# Altium integrated library MCU_Espressif.IntLib: 3 symbols
Pins are listed as number, name and electrical type; pins without a type are passive.

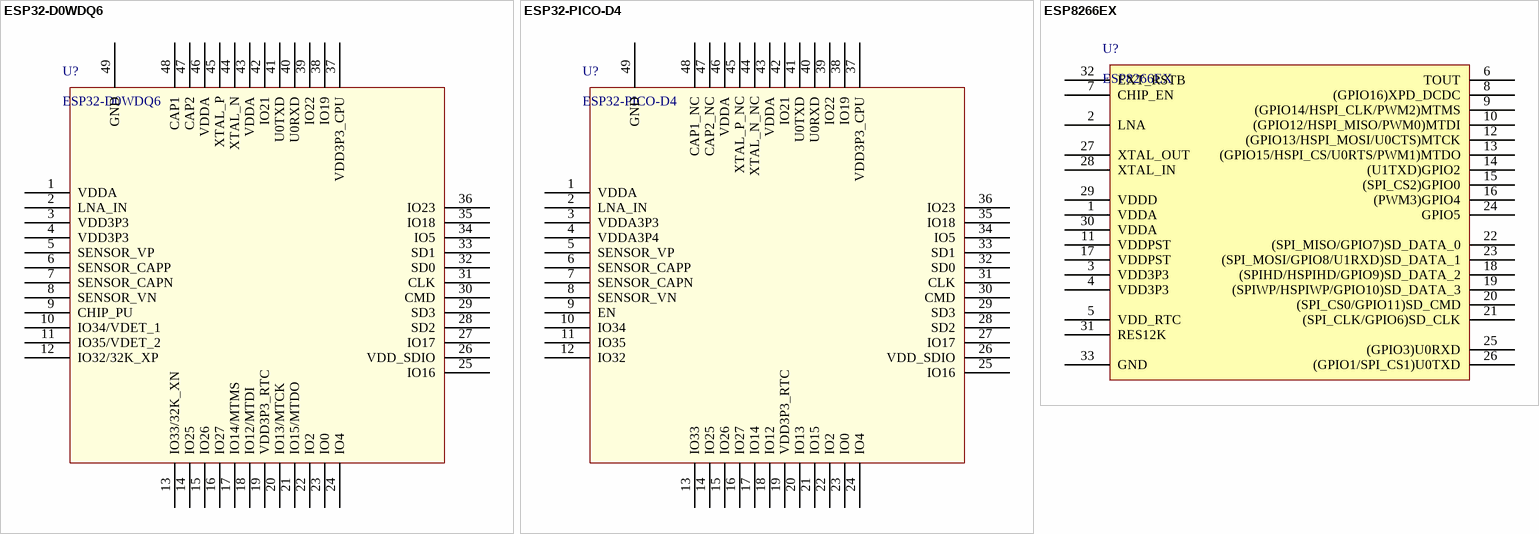
[diagram p0: symbols ESP32-D0WDQ6 to ESP8266EX]

## ESP32-D0WDQ6
designator U?
footprint QFN-48-1EP_6x6mm_P0.4mm_EP4.3x4.3mm_ThermalVias (QFN, 48-Leads, Body 6.00x6.00mm, Pitch 0.40mm, Thermal Pad 4.30x4.30mm, IPC Medium Density)
pins: 1 VDDA, 2 LNA_IN, 3 VDD3P3, 4 VDD3P3, 5 SENSOR_VP, 6 SENSOR_CAPP, 7 SENSOR_CAPN, 8 SENSOR_VN, 9 CHIP_PU, 10 IO34/VDET_1, 11 IO35/VDET_2, 12 IO32/32K_XP, 13 IO33/32K_XN, 14 IO25, 15 IO26, 16 IO27, 17 IO14/MTMS, 18 IO12/MTDI, 19 VDD3P3_RTC, 20 IO13/MTCK, 21 IO15/MTDO, 22 IO2, 23 IO0, 24 IO4, 25 IO16, 26 VDD_SDIO, 27 IO17, 28 SD2, 29 SD3, 30 CMD, 31 CLK, 32 SD0, 33 SD1, 34 IO5, 35 IO18, 36 IO23, 37 VDD3P3_CPU, 38 IO19, 39 IO22, 40 U0RXD, 41 U0TXD, 42 IO21, 43 VDDA, 44 XTAL_N, 45 XTAL_P, 46 VDDA, 47 CAP2, 48 CAP1, 49 GND

## ESP32-PICO-D4
designator U?
footprint QFN-48-1EP_7x7mm_P0.5mm_EP5.4x5.4mm_ThermalVias (QFN, 48-Leads, Body 7.00x7.00mm, Pitch 0.50mm, Thermal Pad 5.40x5.40mm, IPC Low Density)
pins: 1 VDDA, 2 LNA_IN, 3 VDDA3P3, 4 VDDA3P4, 5 SENSOR_VP, 6 SENSOR_CAPP, 7 SENSOR_CAPN, 8 SENSOR_VN, 9 EN, 10 IO34, 11 IO35, 12 IO32, 13 IO33, 14 IO25, 15 IO26, 16 IO27, 17 IO14, 18 IO12, 19 VDD3P3_RTC, 20 IO13, 21 IO15, 22 IO2, 23 IO0, 24 IO4, 25 IO16, 26 VDD_SDIO, 27 IO17, 28 SD2, 29 SD3, 30 CMD, 31 CLK, 32 SD0, 33 SD1, 34 IO5, 35 IO18, 36 IO23, 37 VDD3P3_CPU, 38 IO19, 39 IO22, 40 U0RXD, 41 U0TXD, 42 IO21, 43 VDDA, 44 XTAL_N_NC, 45 XTAL_P_NC, 46 VDDA, 47 CAP2_NC, 48 CAP1_NC, 49 GND

## ESP8266EX
designator U?
footprint QFN-32-1EP_5x5MM_P0.5mm_EP3.45x3.45mm_ThermalVias (QFN, 32-Leads, Body 5.00x5.00mm, Pitch 0.50mm, Thermal Pad 3.70x3.70mm, IPC Low Density)
pins: 1 VDDA, 2 LNA, 3 VDD3P3, 4 VDD3P3, 5 VDD_RTC, 6 TOUT, 7 CHIP_EN, 8 (GPIO16)XPD_DCDC, 9 (GPIO14/HSPI_CLK/PWM2)MTMS, 10 (GPIO12/HSPI_MISO/PWM0)MTDI, 11 VDDPST, 12 (GPIO13/HSPI_MOSI/U0CTS)MTCK, 13 (GPIO15/HSPI_CS/U0RTS/PWM1)MTDO, 14 (U1TXD)GPIO2, 15 (SPI_CS2)GPIO0, 16 (PWM3)GPIO4, 17 VDDPST, 18 (SPIHD/HSPIHD/GPIO9)SD_DATA_2, 19 (SPIWP/HSPIWP/GPIO10)SD_DATA_3, 20 (SPI_CS0/GPIO11)SD_CMD, 21 (SPI_CLK/GPIO6)SD_CLK, 22 (SPI_MISO/GPIO7)SD_DATA_0, 23 (SPI_MOSI/GPIO8/U1RXD)SD_DATA_1, 24 GPIO5, 25 (GPIO3)U0RXD, 26 (GPIO1/SPI_CS1)U0TXD, 27 XTAL_OUT, 28 XTAL_IN, 29 VDDD, 30 VDDA, 31 RES12K, 32 EXT_RSTB, 33 GND